# Altium integrated library Linear Technology Power Management LDO Linear Regulators.IntLib: 2339 symbols (part 131 of 131)
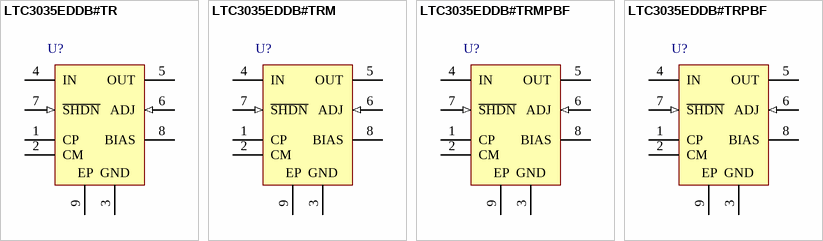
[diagram p199: symbols LTC3035EDDB#TR to LTC3035EDDB#TRPBF]

## LTC3035EDDB#TRPBF
designator U?
300 mA VLDO Linear Regulator with Charge Pump Bias Generator, 1.7 to 5.5 V Vin, Adjustable Vout, 8-pin SON (DDB-8), -40 to 125 degC, Pb-Free, Tape and Reel; Manufacturer: Linear Technology; PartNumber: LTC3035EDDB#TRPBF; Discrete Pass Element: no; Dropout Voltage(V): 0.045; Iout(mA): 300; Isupply(mA): 0.1; Noise(uV): 150; Number of Outputs: 1; Output Voltage: Adj; Vin Max(V): 5.5; Vin Min(V): 1.7; Vout Max(V): 3.6; Vout Min(V): 0.4; PackageVersion: Rev. B, 06/2010; PackageReference: DDB-8; PackageDescription: 8-Pin Plastic DFN, Body 3 x 2 mm, Pitch 0.5 mm; Supplier 1: Digi-Key; Supplier Part Number 1: LTC3035EDDB#TRPBF-ND; Supplier 2: Newark; Supplier Part Number 2: 56M7316; Packing: Tape and Reel; RoHS: TRUE; Shutdown Current(uA): 1; Mounting Technology: Surface Mount; Code_JEDEC: MO-229; ComponentLink1Description: Manufacturer URL; ComponentLink1URL: http://www.linear.com/; ComponentLink2Description: Datasheet; ComponentLink2URL: http://cds.linear.com/docs/en/datasheet/3035f.pdf; ComponentLink3Description: Package Specification; ComponentLink3URL: http://cds.linear.com/docs/en/packaging/DFN_8_05-08-1702.pdf
footprint LT-DDB-8_V (SON, 8-Leads, Body 3x2mm, Pitch 0.5mm, Thermal Pad 2.2x0.61mm)
pins: 1 CP "Flying Capacitor Positive Terminal.", 2 CM "Flying Capacitor Negative Terminal.", 3 GND (power) "Ground. Connect to a ground plane.", 4 IN (power) "Input Supply Voltage. The output load current is supplied directly from IN. The IN pin should be locally bypassed to ground if the LTC3035 is more than a few inches away from another source of bulk capacitance. In general, (See Datasheet)", 5 OUT (power) "Regulated Output Voltage. The OUT pin supplies power to the load. A minimum ceramic output capacitor of at least 1uF is required to ensure stability. Larger output capacitors may be required for applications with large (See Datasheet)", 6 ADJ (in) "Adjust Input Pin. This is the input to the error amplifier. The ADJ pin reference voltage is 0.4V referenced to ground. The output voltage range is 0.4V to 3.6V and is set by connecting ADJ to a resistor divider from OUT to (See Datasheet)", 7 ~{SHDN} (in) "Shutdown Input, Active Low. This pin is used to put the LTC3035 into shutdown. The S\H\D\N\ pin current is typically less than 10nA. The S\H\D\N\ pin cannot be left floating and must be tied to a valid logic level if not (See Datasheet)", 8 BIAS (power) "BIAS Output Voltage Pin. BIAS is the output of the charge pump and provides the high side supply for the LTC3035 LDO circuitry. This pin should be locally bypassed to ground by a 1uF or greater capacitor as close as possible (See Datasheet)", 9 EP (power) "Ground and Heat Sink. Must be soldered to PCB ground plane or large pad for optimal thermal performance."